# Altium footprint library Headers.PcbLib: 31 footprints (part 2 of 2)
Each footprint in its own frame and in the unit in brackets; x right, y up, seen from the top. Pads: shape width x height; smd on the part's side, far side on the other; paste and mask are expansions set on the pad; w line width, h text height; cw(c..) or ccw(c..) is an arc to the next point about the centre after c.
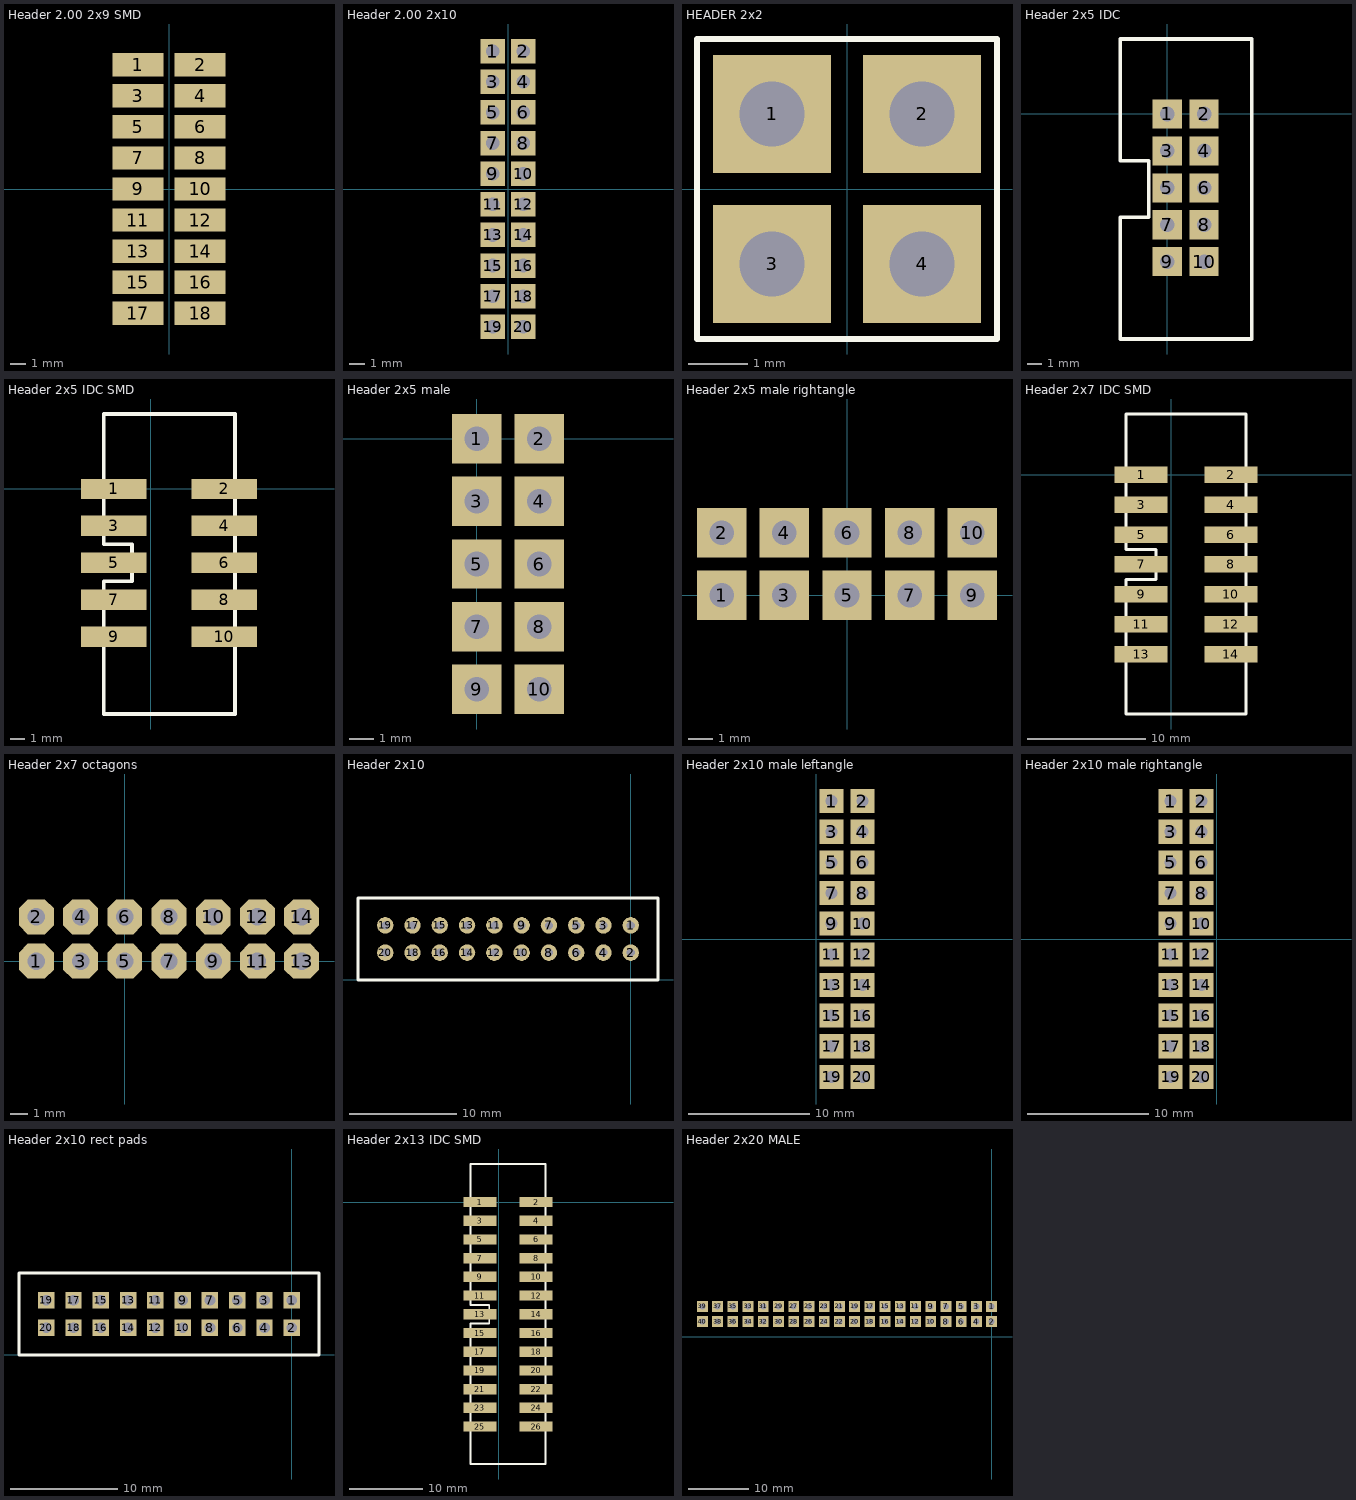
[diagram p1: the footprints below, top view; thin cyan lines are the x and y axes]

## Header 2.00 2x9 SMD [mm]
pads (18):
  rect 3.3x1.5 smd: 1(-2,8) 2(2,8) 3(-2,6) 4(2,6) 5(-2,4) 6(2,4) 7(-2,2) 8(2,2) 9(-2,0) 10(2,0) 11(-2,-2) 12(2,-2) 13(-2,-4) 14(2,-4) 15(-2,-6) 16(2,-6) 17(-2,-8) 18(2,-8)

## Header 2.00 2x10 [mm]
pads (20):
  rect 1.6x1.6 hole 0.9: 1(-1,9) 2(1,9) 3(-1,7) 4(1,7) 5(-1,5) 6(1,5) 7(-1,3) 8(1,3) 9(-1,1) 10(1,1) 11(-1,-1) 12(1,-1) 13(-1,-3) 14(1,-3) 15(-1,-5) 16(1,-5) 17(-1,-7) 18(1,-7) 19(-1,-9) 20(1,-9)

## HEADER 2x2 [mm] "4 Pins Stiftleiste, 2.54mm"
pads (4):
  rect 2x2 hole 1.1: 1(-1.27,1.27) 2(1.27,1.27) 3(-1.27,-1.27) 4(1.27,-1.27)
Top Overlay:
  lines w0.1: -2.54,-2.54 -2.54,2.54 2.54,2.54 2.54,-2.54 -2.54,-2.54

## Header 2x5 IDC [mm]
pads (10):
  rect 2x2 hole 1: 1(0,0) 2(2.54,0) 3(0,-2.54) 4(2.54,-2.54) 5(0,-5.08) 6(2.54,-5.08) 7(0,-7.62) 8(2.54,-7.62) 9(0,-10.16) 10(2.54,-10.16)
Top Overlay:
  lines w0.254: -3.225,-15.48 -3.225,-7.095 -1.27,-7.095 -1.27,-3.225 -3.225,-3.225 -3.225,5.16 5.805,5.16 5.805,-15.48 -3.225,-15.48
3D body: height 9.3, standoff -3.1, extent -3.225,-15.46 5.875,5.14

## Header 2x5 IDC SMD [mm]
pads (10):
  rect 4.5x1.4 smd: 1(-2.54,0) 2(5.08,0) 3(-2.54,-2.54) 4(5.08,-2.54) 5(-2.54,-5.08) 6(5.08,-5.08) 7(-2.54,-7.62) 8(5.08,-7.62) 9(-2.54,-10.16) 10(5.08,-10.16)
Top Overlay:
  lines w0.254: -3.225,-15.48 5.805,-15.48 5.805,5.16 -3.225,5.16 -3.225,-3.81 -1.27,-3.81 -1.27,-6.35 -3.225,-6.35 -3.225,-15.48
3D body: height 9.3, standoff -3.1, extent -3.225,-15.46 5.875,5.14

## Header 2x5 male [mm]
pads (10):
  rect 2x2 hole 1: 1(0,0) 2(2.54,0) 3(0,-2.54) 4(2.54,-2.54) 5(0,-5.08) 6(2.54,-5.08) 7(0,-7.62) 8(2.54,-7.62) 9(0,-10.16) 10(2.54,-10.16)
3D body: height 8.6, standoff -3, extent -1.27,-11.43 3.81,1.27

## Header 2x5 male rightangle [mm]
pads (10):
  rect 2x2 hole 1: 1(-5.08,0) 2(-5.08,2.54) 3(-2.54,0) 4(-2.54,2.54) 5(0,0) 6(0,2.54) 7(2.54,0) 8(2.54,2.54) 9(5.08,0) 10(5.08,2.54)
3D body: height 5.18, standoff -2.9, extent -6.35,-0.325 6.35,12.725

## Header 2x7 IDC SMD [mm]
pads (14):
  rect 4.5x1.4 smd: 1(-2.54,0) 2(5.08,0) 3(-2.54,-2.54) 4(5.08,-2.54) 5(-2.54,-5.08) 6(5.08,-5.08) 7(-2.54,-7.62) 8(5.08,-7.62) 9(-2.54,-10.16) 10(5.08,-10.16) 12(5.08,-12.7) 13(-2.54,-15.24) 14(5.08,-15.24)
  rect 4.5x1.4 smd mask+0.102: 11(-2.54,-12.7)
Top Overlay:
  lines w0.254: -3.81,-20.32 -3.81,-8.89 -1.27,-8.89 -1.27,-6.35 -3.81,-6.35 -3.81,5.16 6.35,5.16 6.35,-20.32 -3.81,-20.32
3D body: height 10.45, standoff -0.06, extent -3.48,-20.32 6.02,5.08

## Header 2x7 octagons [mm] "2.54mm"
pads (14):
  oct 2x2 hole 1: 1(-5.08,0) 2(-5.08,2.54) 3(-2.54,0) 4(-2.54,2.54) 5(0,0) 6(0,2.54) 7(2.54,0) 8(2.54,2.54) 9(5.08,0) 10(5.08,2.54) 11(7.62,0) 12(7.62,2.54) 13(10.16,0) 14(10.16,2.54)

## Header 2x10 [mil]
pads (20):
  round 60 hole 30: 1(0,200) 2(0,100) 3(-100,200) 4(-100,100) 5(-200,200) 6(-200,100) 7(-300,200) 8(-300,100) 9(-400,200) 10(-400,100) 11(-500,200) 12(-500,100) 13(-600,200) 14(-600,100) 15(-700,200) 16(-700,100) 17(-800,200) 18(-800,100) 19(-900,200) 20(-900,100)
Top Overlay:
  lines w10: -1000,0 -1000,300 100,300 100,0 -1000,0

## Header 2x10 male leftangle [mm]
pads (20):
  rect 2x2 hole 1: 1(1.27,11.43) 2(3.81,11.43) 3(1.27,8.89) 4(3.81,8.89) 5(1.27,6.35) 6(3.81,6.35) 7(1.27,3.81) 8(3.81,3.81) 9(1.27,1.27) 10(3.81,1.27) 11(1.27,-1.27) 12(3.81,-1.27) 13(1.27,-3.81) 14(3.81,-3.81) 15(1.27,-6.35) 16(3.81,-6.35) 17(1.27,-8.89) 18(3.81,-8.89) 19(1.27,-11.43) 20(3.81,-11.43)
3D body: height 2.9, standoff -5.18, extent -8.89,-12.7 4.16,12.7

## Header 2x10 male rightangle [mm]
pads (20):
  rect 2x2 hole 1: 1(-3.81,11.43) 2(-1.27,11.43) 3(-3.81,8.89) 4(-1.27,8.89) 5(-3.81,6.35) 6(-1.27,6.35) 7(-3.81,3.81) 8(-1.27,3.81) 9(-3.81,1.27) 10(-1.27,1.27) 11(-3.81,-1.27) 12(-1.27,-1.27) 13(-3.81,-3.81) 14(-1.27,-3.81) 15(-3.81,-6.35) 16(-1.27,-6.35) 17(-3.81,-8.89) 18(-1.27,-8.89) 19(-3.81,-11.43) 20(-1.27,-11.43)
3D body: height 2.9, standoff -5.18, extent -4.16,-12.7 8.89,12.7

## Header 2x10 rect pads [mil]
pads (20):
  rect 60x60 hole 39.37: 1(0,200) 2(0,100) 3(-100,200) 4(-100,100) 5(-200,200) 6(-200,100) 7(-300,200) 8(-300,100) 9(-400,200) 10(-400,100) 11(-500,200) 12(-500,100) 13(-600,200) 14(-600,100) 15(-700,200) 16(-700,100) 17(-800,200) 18(-800,100) 19(-900,200) 20(-900,100)
Top Overlay:
  lines w10: -1000,0 -1000,300 100,300 100,0 -1000,0

## Header 2x13 IDC SMD [mm]
pads (26):
  rect 4.5x1.4 smd: 1(-2.54,0) 2(5.08,0) 3(-2.54,-2.54) 4(5.08,-2.54) 5(-2.54,-5.08) 6(5.08,-5.08) 7(-2.54,-7.62) 8(5.08,-7.62) 9(-2.54,-10.16) 10(5.08,-10.16) 12(5.08,-12.7) 13(-2.54,-15.24) 14(5.08,-15.24) 15(-2.54,-17.78) 16(5.08,-17.78) 17(-2.54,-20.32) 18(5.08,-20.32) 19(-2.54,-22.86) 20(5.08,-22.86) 21(-2.54,-25.4) 22(5.08,-25.4) 23(-2.54,-27.94) 24(5.08,-27.94) 25(-2.54,-30.48) 26(5.08,-30.48)
  rect 4.5x1.4 smd mask+0.102: 11(-2.54,-12.7)
Top Overlay:
  lines w0.254: -3.81,-35.56 -3.81,-16.51 -1.27,-16.51 -1.27,-13.97 -3.81,-13.97 -3.81,5.16 6.35,5.16 6.35,-35.56 -3.81,-35.56
3D body: height 10.47, standoff -0.04, extent -3.48,-35.56 6.02,5.08

## Header 2x20 MALE [mm]
pads (40):
  rect 1.8x1.8 hole 1: 1(0,5.08) 2(0,2.54) 3(-2.54,5.08) 4(-2.54,2.54) 5(-5.08,5.08) 6(-5.08,2.54) 7(-7.62,5.08) 8(-7.62,2.54) 9(-10.16,5.08) 10(-10.16,2.54) 11(-12.7,5.08) 12(-12.7,2.54) 13(-15.24,5.08) 14(-15.24,2.54) 15(-17.78,5.08) 16(-17.78,2.54) 17(-20.32,5.08) 18(-20.32,2.54) 19(-22.86,5.08) 20(-22.86,2.54) 21(-25.4,5.08) 22(-25.4,2.54) 23(-27.94,5.08) 24(-27.94,2.54) 25(-30.48,5.08) 26(-30.48,2.54) 27(-33.02,5.08) 28(-33.02,2.54) 29(-35.56,5.08) 30(-35.56,2.54) 31(-38.1,5.08) 32(-38.1,2.54) 33(-40.64,5.08) 34(-40.64,2.54) 35(-43.18,5.08) 36(-43.18,2.54) 37(-45.72,5.08) 38(-45.72,2.54) 39(-48.26,5.08) 40(-48.26,2.54)
3D body: height 8.6, standoff -3, extent -11.43,1.27 1.27,6.35
3D body: height 8.6, standoff -3, extent -24.13,1.27 -11.43,6.35
3D body: height 8.6, standoff -3, extent -36.83,1.27 -24.13,6.35
3D body: height 8.6, standoff -3, extent -49.53,1.27 -36.83,6.35